# Altium schematic symbol library BATTERY_CELL.SchLib: 1 symbol
Pins are listed as number, name and electrical type; pins without a type are passive.

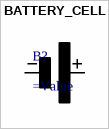
[diagram p0: symbol BATTERY_CELL]

## BATTERY_CELL
designator B?
=Description
pins: 1 + (power), 2 - (power)
1 alternate drawing of the same symbol